# EAGLE library part WE-BMS_74942301 (library WE-BMS)
WE-BMS Transformer for Battery Management Systems Characteristics Supports BMS isolation Supports serial daisy chain isoSPI and SPI 800 VDC and 1000 VDC working voltage AEC-Q200 qualification Operating temperature: -40°C up to +125°C Applications Solar energy storage Energy Storage systems Uninterrupted Power Supply (UPS) E-bikes, E-scooters <https://www.we-online.com/components/media/o489329v209%20UtBMS_Group.jpg> Details see: www.we-online.com/en/components/products/WE-BMS <www.we-online.com/catalog/WE-BMS/?utm_source=eagle_model&utm_medium=description_link&utm_campaign=eisos_eagle> Created by Ella Wu 2022-04-13 2022 (C) Würth Elektronik
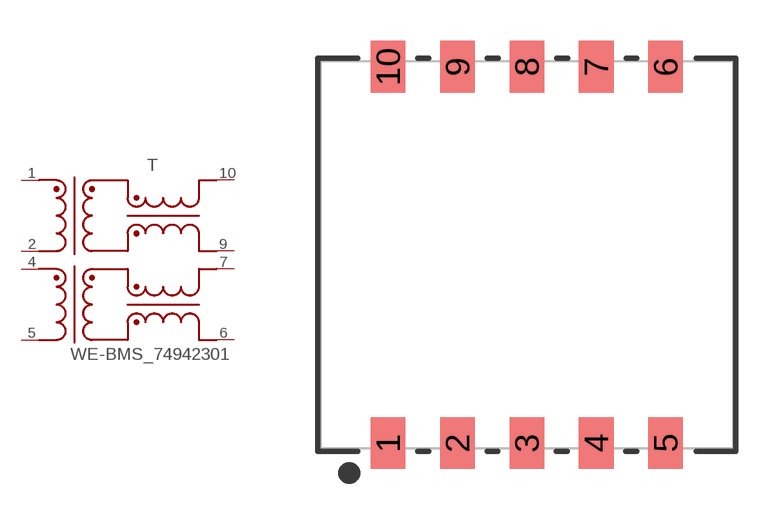
[diagram p5: symbol with the pads of WE-BMS_74942301; footprint WE-BMS_74942301]

Designator prefix T

## WE-BMS_74942301 (CREEPAGE-DISTANCE: 10mm; DATASHEET-URL: https://www.we-online.com/redexpert/spec/74942301?ae; HEIGHT: 3.45mm; INSULATION-TEST-VOLTAGE: 4300V(DC); LENGTH: 15.1mm; MOUNT: SMT; NUMBER-OF-PORTS: 2; PART-NUMBER: 74942301; VALUE: 74942301; WIDTH: 14.9mm; WORKING-VOLTAGE: 1000V(DC))  [WE-BMS_74942301]
1  1  pas
2  2  pas
4  4  pas
5  5  pas
6  6  pas
7  7  pas
9  9  pas
10  10  pas

## Footprint WE-BMS_74942301 (pad centres in mm)
smd 1.27 x 1.89: 1 -5.08,-6.895; 2 -2.54,-6.895; 3 0,-6.895; 4 2.54,-6.895; 5 5.08,-6.895; 6 5.08,6.895; 7 2.54,6.895; 8 0,6.895; 9 -2.54,6.895; 10 -5.08,6.895